# Altium footprint library PCB.PCBLIB: 320 footprints (part 20 of 20)
Each footprint in its own frame and in the unit in brackets; x right, y up, seen from the top. Pads: shape width x height; smd on the part's side, far side on the other; paste and mask are expansions set on the pad; w line width, h text height; cw(c..) or ccw(c..) is an arc to the next point about the centre after c.
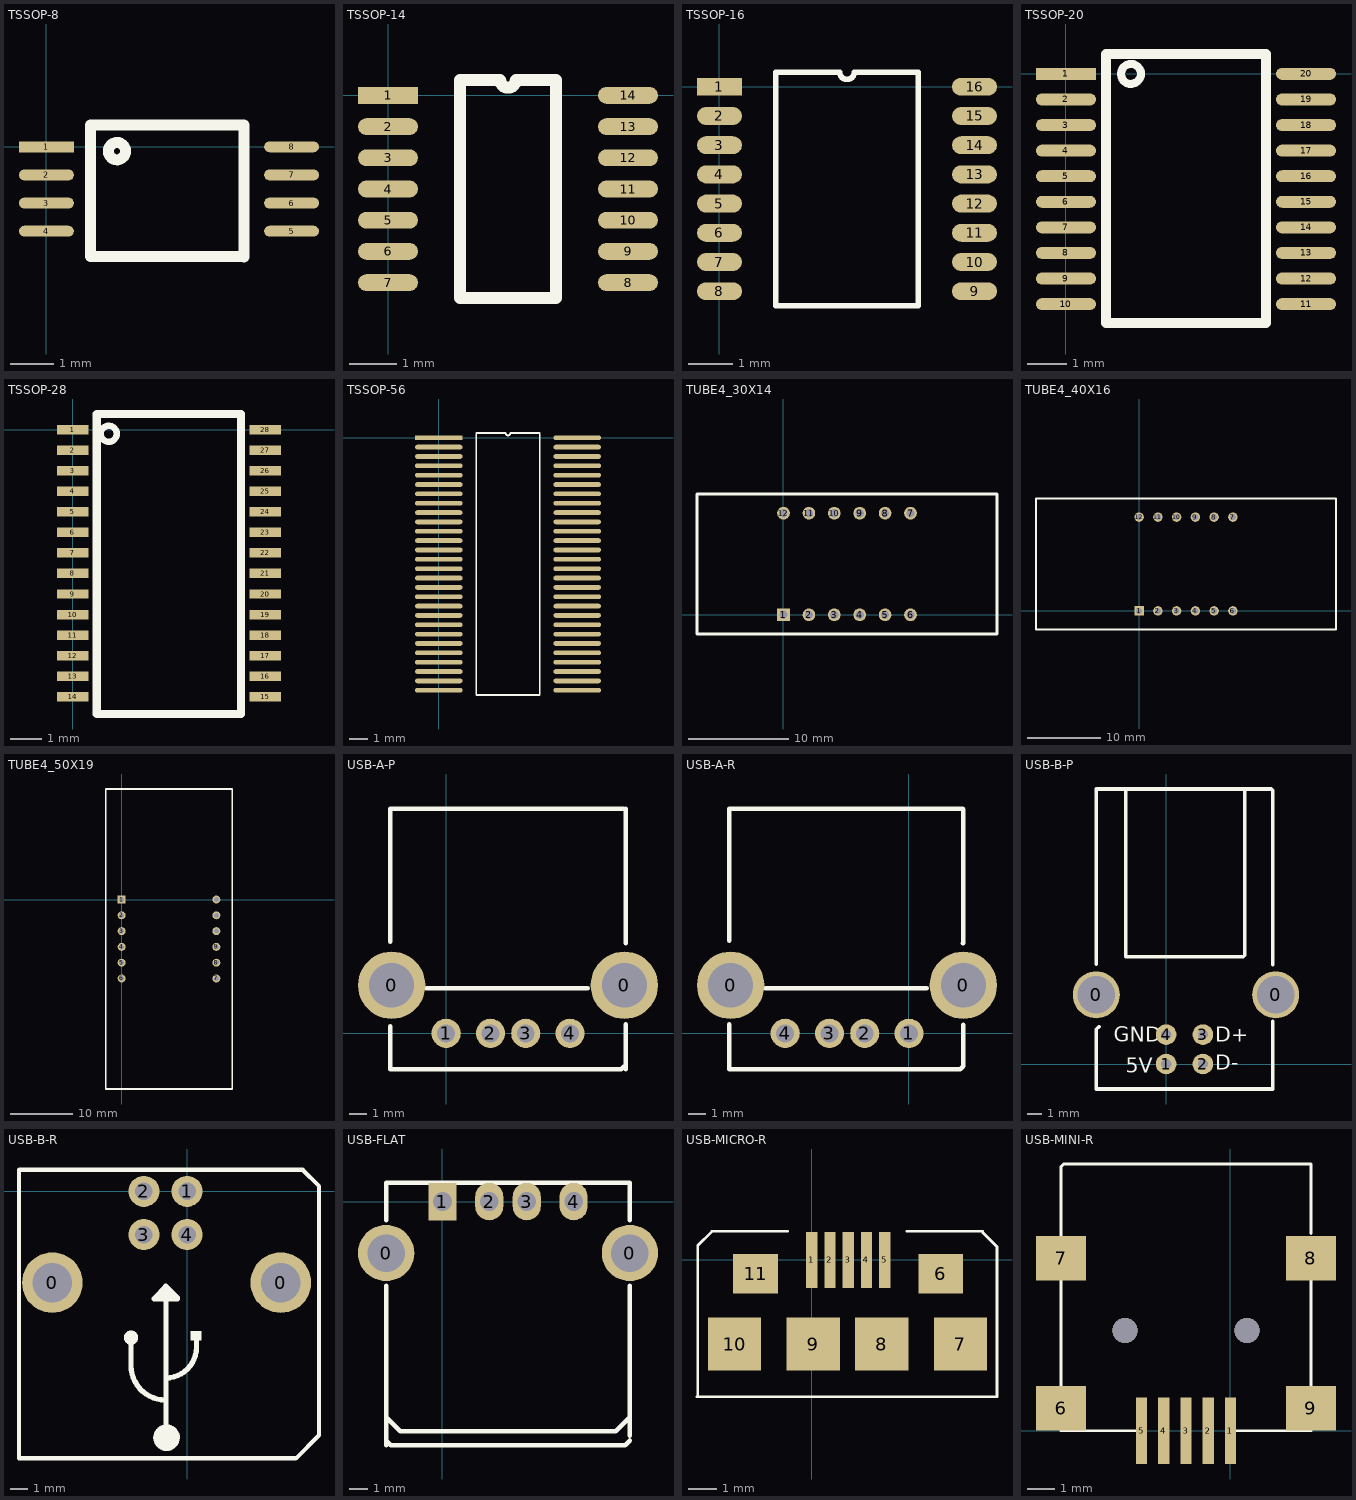
[diagram p19: the footprints below, top view; thin cyan lines are the x and y axes]

## TSSOP-8 [mm]
pads (8):
  rect 1.27x0.25 smd: 1(0,0)
  oval 1.27x0.25 smd: 2(0,-0.65) 3(0,-1.3) 4(0,-1.95) 5(5.67,-1.95) 6(5.67,-1.3) 7(5.67,-0.65) 8(5.67,0)
TopOverlay:
  circle w0.254: c1.632,-0.1 r0.2
  lines w0.254: 4.572,-2.548 4.572,0.508 1.016,0.508 1.016,-2.54 4.572,-2.54

## TSSOP-14 [mil]
pads (14):
  rect 50x14 smd: 1(0,0)
  oval 50x14 smd: 2(0,-26) 3(0,-52) 4(0,-78) 5(0,-104) 6(0,-130) 7(0,-156) 8(200,-156) 9(200,-130) 10(200,-104) 11(200,-78) 12(200,-52) 13(200,-26) 14(200,0)
TopOverlay:
  lines w10: 60,-169 60,13 93.5,13 ccw(c100,13) 106.5,13 140,13 140,-169 60,-169

## TSSOP-16 [mil]
pads (16):
  rect 40x16 smd: 1(0,0)
  oval 40x16 smd: 2(0,-26) 3(0,-52) 4(0,-78) 5(0,-104) 6(0,-130) 7(0,-156) 8(0,-182) 9(227,-182) 10(227,-156) 11(227,-130) 12(227,-104) 13(227,-78) 14(227,-52) 15(227,-26) 16(227,0)
TopOverlay:
  lines w5: 50,-195 50,13 107,13 ccw(c113.5,13) 120,13 177,13 177,-195 50,-195

## TSSOP-20 [mil]
pads (20):
  rect 60x12 smd: 1(0,0)
  oval 60x12 smd: 2(0,-25.59) 3(0,-51.18) 4(0,-76.77) 5(0,-102.36) 6(0,-127.95) 7(0,-153.54) 8(0,-179.13) 9(0,-204.72) 10(0,-230.31) 11(240.16,-230.31) 12(240.16,-204.72) 13(240.16,-179.13) 14(240.16,-153.54) 15(240.16,-127.95) 16(240.16,-102.36) 17(240.16,-76.77) 18(240.16,-51.18) 19(240.16,-25.59) 20(240.16,0)
TopOverlay:
  circle w8: c65,0 r10
  lines w10: 40,-249.02 200,-249.02 200,20 40,20 40,-249.02

## TSSOP-28 [mm]
pads (28):
  rect 1x0.3 smd: 1(0,0) 2(0,-0.65) 3(0,-1.3) 4(0,-1.95) 5(0,-2.6) 6(0,-3.25) 7(0,-3.9) 8(0,-4.55) 9(0,-5.2) 10(0,-5.85) 11(0,-6.5) 12(0,-7.15) 13(0,-7.8) 14(0,-8.45) 15(6.1,-8.45) 16(6.1,-7.8) 17(6.1,-7.15) 18(6.1,-6.5) 19(6.1,-5.85) 20(6.1,-5.2) 21(6.1,-4.55) 22(6.1,-3.9) 23(6.1,-3.25) 24(6.1,-2.6) 25(6.1,-1.95) 26(6.1,-1.3) 27(6.1,-0.65) 28(6.1,0)
TopOverlay:
  circle w0.203: c1.143,-0.127 r0.254
  lines w0.254: 0.762,-9 0.762,0.5 5.334,0.5 5.334,-9 0.762,-9

## TSSOP-56 [mm]
pads (56):
  rect 2.54x0.254 smd: 1(0,0)
  oval 2.54x0.254 smd: 2(0,-0.5) 3(0,-1) 4(0,-1.5) 5(0,-2) 6(0,-2.5) 7(0,-3) 8(0,-3.5) 9(0,-4) 10(0,-4.5) 11(0,-5) 12(0,-5.5) 13(0,-6) 14(0,-6.5) 15(0,-7) 16(0,-7.5) 17(0,-8) 18(0,-8.5) 19(0,-9) 20(0,-9.5) 21(0,-10) 22(0,-10.5) 23(0,-11) 24(0,-11.5) 25(0,-12) 26(0,-12.5) 27(0,-13) 28(0,-13.5) 29(7.4,-13.5) 30(7.4,-13) 31(7.4,-12.5) 32(7.4,-12) 33(7.4,-11.5) 34(7.4,-11) 35(7.4,-10.5) 36(7.4,-10) 37(7.4,-9.5) 38(7.4,-9) 39(7.4,-8.5) 40(7.4,-8) 41(7.4,-7.5) 42(7.4,-7) 43(7.4,-6.5) 44(7.4,-6) 45(7.4,-5.5) 46(7.4,-5) 47(7.4,-4.5) 48(7.4,-4) 49(7.4,-3.5) 50(7.4,-3) 51(7.4,-2.5) 52(7.4,-2) 53(7.4,-1.5) 54(7.4,-1) 55(7.4,-0.5) 56(7.4,0)
TopOverlay:
  lines w0.1: 2.005,-13.75 5.395,-13.75 5.395,0.25 3.825,0.25 cw(c3.7,0.25) 3.575,0.25 2.005,0.25 2.005,-13.75

## TUBE4_30X14 [mil]
pads (12):
  rect 50x50 hole 32: 1(0,0)
  round 50 hole 32: 2(100,0) 3(200,0) 4(300,0) 5(400,0) 6(500,0) 7(500,400) 8(400,400) 9(300,400) 10(200,400) 11(100,400) 12(0,400)
TopOverlay:
  lines w10: -340.55,-75.59 -340.55,475.59 840.55,475.59 840.55,-75.59 -340.55,-75.59

## TUBE4_40X16 [mil]
pads (12):
  rect 50x50 hole 32: 1(0,0)
  round 50 hole 32: 2(100,0) 3(200,0) 4(300,0) 5(400,0) 6(500,0) 7(500,500) 8(400,500) 9(300,500) 10(200,500) 11(100,500) 12(0,500)
TopOverlay:
  lines w10: -550,-100 -550,600 1050,600 1050,-100 -550,-100

## TUBE4_50X19 [mil]
pads (12):
  rect 50x50 hole 32: 1(0,0)
  round 50 hole 32: 2(0,-100) 3(0,-200) 4(0,-300) 5(0,-400) 6(0,-500) 7(600,-500) 8(600,-400) 9(600,-300) 10(600,-200) 11(600,-100) 12(600,0)
TopOverlay:
  lines w10: -100,-1200 700,-1200 700,700 -100,700 -100,-1200

## USB-A-P [mil]
pads (6):
  round 150 hole 100: 0(-121.4,107) 0(396.6,107)
  round 65 hole 40: 1(0,0) 2(98.6,0) 3(177.1,0) 4(275.6,0)
TopOverlay:
  lines w10: -124.4,15.6 -124.4,-80 389.6,-80 396.6,-73 ; -124.4,204.4 -124.4,500 395.6,500 396.6,499 ; -44.4,100 315.6,100 ; 400,-80 400,20 ; 400,200 400,500

## USB-A-R [mil]
pads (6):
  round 150 hole 100: 0(-397,107) 0(121,107)
  round 65 hole 40: 1(0,0) 2(-98.5,0) 3(-177,0) 4(-275.6,0)
TopOverlay:
  lines w10: -400,20 -400,-80 114,-80 121,-73 121,19 ; -400,206 -400,500 120,500 121,499 121,201 120,200 ; -320,100 40,100

## USB-B-P [mm]
pads (6):
  round 3.2 hole 2.54: 0(-4.75,4.7) 0(7.45,4.7)
  round 1.4 hole 0.7: 1(0,0) 2(2.5,0) 3(2.5,2) 4(0,2)
TopOverlay:
  lines w0.254: -4.75,6.782 -4.75,8.5 -4.75,18.7 1.25,18.7 7.15,18.7 7.25,18.6 7.25,10.5 7.25,6.742 ; -4.572,2.54 -4.75,2.362 -4.75,0 -4.75,-1.7 7.25,-1.7 7.25,0 7.25,2.91 ; -2.75,18.7 -2.75,7.3 5.25,7.3 5.35,7.4 5.35,18.7
  text "5V" at -2.75,-0.6 h1.02
  text "GND" at -3.55,1.5 h1.02
  text "D+" at 3.35,1.5 h1.02
  text "D-" at 3.35,-0.4 h1.02

## USB-B-R [mm]
pads (6):
  round 3.5 hole 2.3: 0(-7.789,-5.281) 0(5.411,-5.281)
  round 1.8 hole 1.016: 1(0,0) 2(-2.5,0) 3(-2.5,-2.5) 4(0,-2.5)
TopOverlay:
  rectangle: 0.186,-8.631 0.836,-8.081
  rectangle: -3.339,-8.531 -3.139,-8.331
  rectangle: -1.514,-14.706 -0.814,-13.756
  lines w0.203: -9.714,-15.432 -9.714,1.256
  lines w0.254: -9.714,-15.432 6.288,-15.432 7.62,-14.1 7.62,0.302 6.686,1.236 -9.694,1.236
  lines w0.305: -3.239,-8.581 -3.239,-10.081 ccw(c-1.264,-10.081) -1.264,-12.056 ; -3.025,-8.605 cw(c-3.239,-8.456) -2.989,-8.532 ; -1.914,-6.206 -0.564,-6.206 -0.814,-5.956 -1.639,-5.956 ; -1.889,-6.181 -1.214,-5.506 -1.214,-13.981 ; -1.614,-13.906 ccw(c-1.214,-14.156) -1.564,-13.84 ; -1.516,-13.707 ccw(c-1.189,-14.231) -1.469,-13.681 ; -1.239,-5.756 -1.239,-5.481 -0.564,-6.156 ; -1.214,-10.781 ccw(c-1.214,-9.031) 0.536,-9.031 0.536,-8.681 ; -1.09,-13.979 ccw(c-1.264,-14.106) -1.05,-14.079

## USB-FLAT [mil]
pads (6):
  round 120 hole 80: 0(-120,-110) 0(400,-110)
  rect 60x80 hole 40: 1(0,0)
  oval 60x80 hole 40: 2(100,0) 3(180,0) 4(280,0)
TopOverlay:
  lines w10: -120,-520 -120,-180 ; -120,-510 -110,-520 390,-520 400,-510 ; -120,-460 -90,-490 370,-490 400,-460 ; -120,-40 -120,40 400,40 400,-40 ; 400,-500 400,-180

## USB-MICRO-R [mm]
pads (11):
  rect 0.4x2 smd: 1(0,0) 2(0.65,0) 3(1.3,0) 4(1.95,0) 5(2.6,0)
  rect 1.6x1.4 smd: 6(4.6,-0.5) 11(-2,-0.5)
  rect 1.9x1.9 smd: 7(5.3,-3) 8(2.5,-3) 9(0.05,-3) 10(-2.75,-3)
TopOverlay:
  lines w0.1: -4.089,-4.877 6.604,-4.877 6.604,0.468 6.096,0.976 ; -4.064,-4.877 -4.064,0.508 -3.556,1.016 -0.856,1.016 ; 3.396,1.016 6.096,1.016

## USB-MINI-R [mm]
pads (9):
  rect 0.4x2.4 smd: 1(0,0) 2(-0.8,0) 3(-1.6,0) 4(-2.4,0) 5(-3.2,0)
  rect 1.8x1.6 smd: 6(-6.1,0.8) 7(-6.1,6.2) 8(2.9,6.2) 9(2.9,0.8)
via -3.8,3.6 diameter 0.9 hole 0.9
via 0.6,3.6 diameter 0.9 hole 0.9
TopOverlay:
  lines w0.1: -6.1,0 -3.4,0 ; -6.1,1.6 -6.1,5.4 ; -6.1,7 -6.1,9.5 -6,9.6 2.9,9.6 2.9,7.1 ; 0.2,0 2.9,0 ; 2.9,1.6 2.9,5.4